# Altium schematic symbol library ti_TPS25982.SchLib: 1 symbol
Pins are listed as number, name and electrical type; pins without a type are passive.

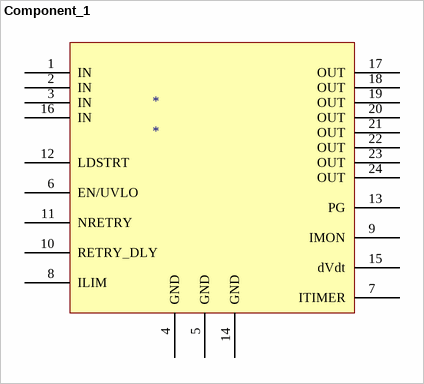
[diagram p0: symbol Component_1]

## Component_1
designator *
pins: 1 IN, 2 IN, 3 IN, 4 GND, 5 GND, 6 EN/UVLO, 7 ITIMER, 8 ILIM, 9 IMON, 10 RETRY_DLY, 11 NRETRY, 12 LDSTRT, 13 PG, 14 GND, 15 dVdt, 16 IN, 17 OUT, 18 OUT, 19 OUT, 20 OUT, 21 OUT, 22 OUT, 23 OUT, 24 OUT